# Altium schematic symbol library NormalICComponents.SchLib: 2 symbols
Pins are listed as number, name and electrical type; pins without a type are passive.

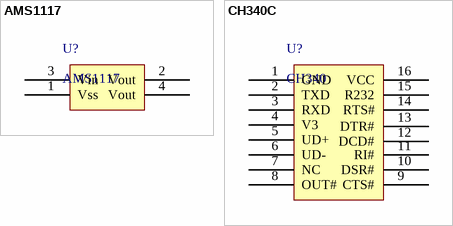
[diagram p0: symbols AMS1117 to CH340C]

## AMS1117
designator U?
pins: 1 Vss, 2 Vout, 3 Vin, 4 Vout

## CH340C
designator U?, comment CH340
pins: 1 GND, 2 TXD, 3 RXD, 4 V3, 5 UD+, 6 UD-, 7 NC, 8 OUT#, 9 CTS#, 10 DSR#, 11 RI#, 12 DCD#, 13 DTR#, 14 RTS#, 15 R232, 16 VCC